# EAGLE library part TLC2272CD (library TLC2272CD)
Dual, Low-Noise, Rail-To-Rail Operational Amplifier Source: Datasheet <http://www.ti.com/lit/ds/symlink/tlc2272.pdf>
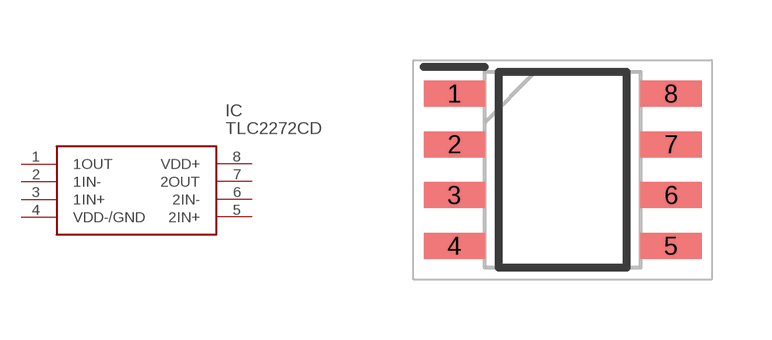
[diagram p0: symbol with the pads of SOIC127P600X175-8N; footprint SOIC127P600X175-8N]

Designator prefix IC

## TLC2272CD (Description: Dual, Low-Noise, Rail-To-Rail Operational Amplifier; Height: 1.75mm; Manufacturer_Name: Texas Instruments; Manufacturer_Part_Number: TLC2272CD; Mouser_Part_Number: 595-TLC2272CD; Mouser_Price-Stock: https://www.mouser.co.uk/ProductDetail/Texas-Instruments/TLC2272CD?qs=JHHQeKcAU3DCCrMZYsil2w%3D%3D)  [SOIC127P600X175-8N]
1  1OUT
2  1IN-
3  1IN+
4  VDD-/GND
5  2IN+
6  2IN-
7  2OUT
8  VDD+

## Footprint SOIC127P600X175-8N (pad centres in mm)
+soic d
smd 1.528 x 0.65: 1 -2.711,1.905; 2 -2.711,0.635; 3 -2.711,-0.635; 4 -2.711,-1.905; 5 2.711,-1.905; 6 2.711,-0.635; 7 2.711,0.635; 8 2.711,1.905